# Altium footprint library PCB_PLC.PcbLib: 27 footprints (part 1 of 2)
Each footprint in its own frame and in the unit in brackets; x right, y up, seen from the top. Pads: shape width x height; smd on the part's side, far side on the other; paste and mask are expansions set on the pad; w line width, h text height; cw(c..) or ccw(c..) is an arc to the next point about the centre after c.
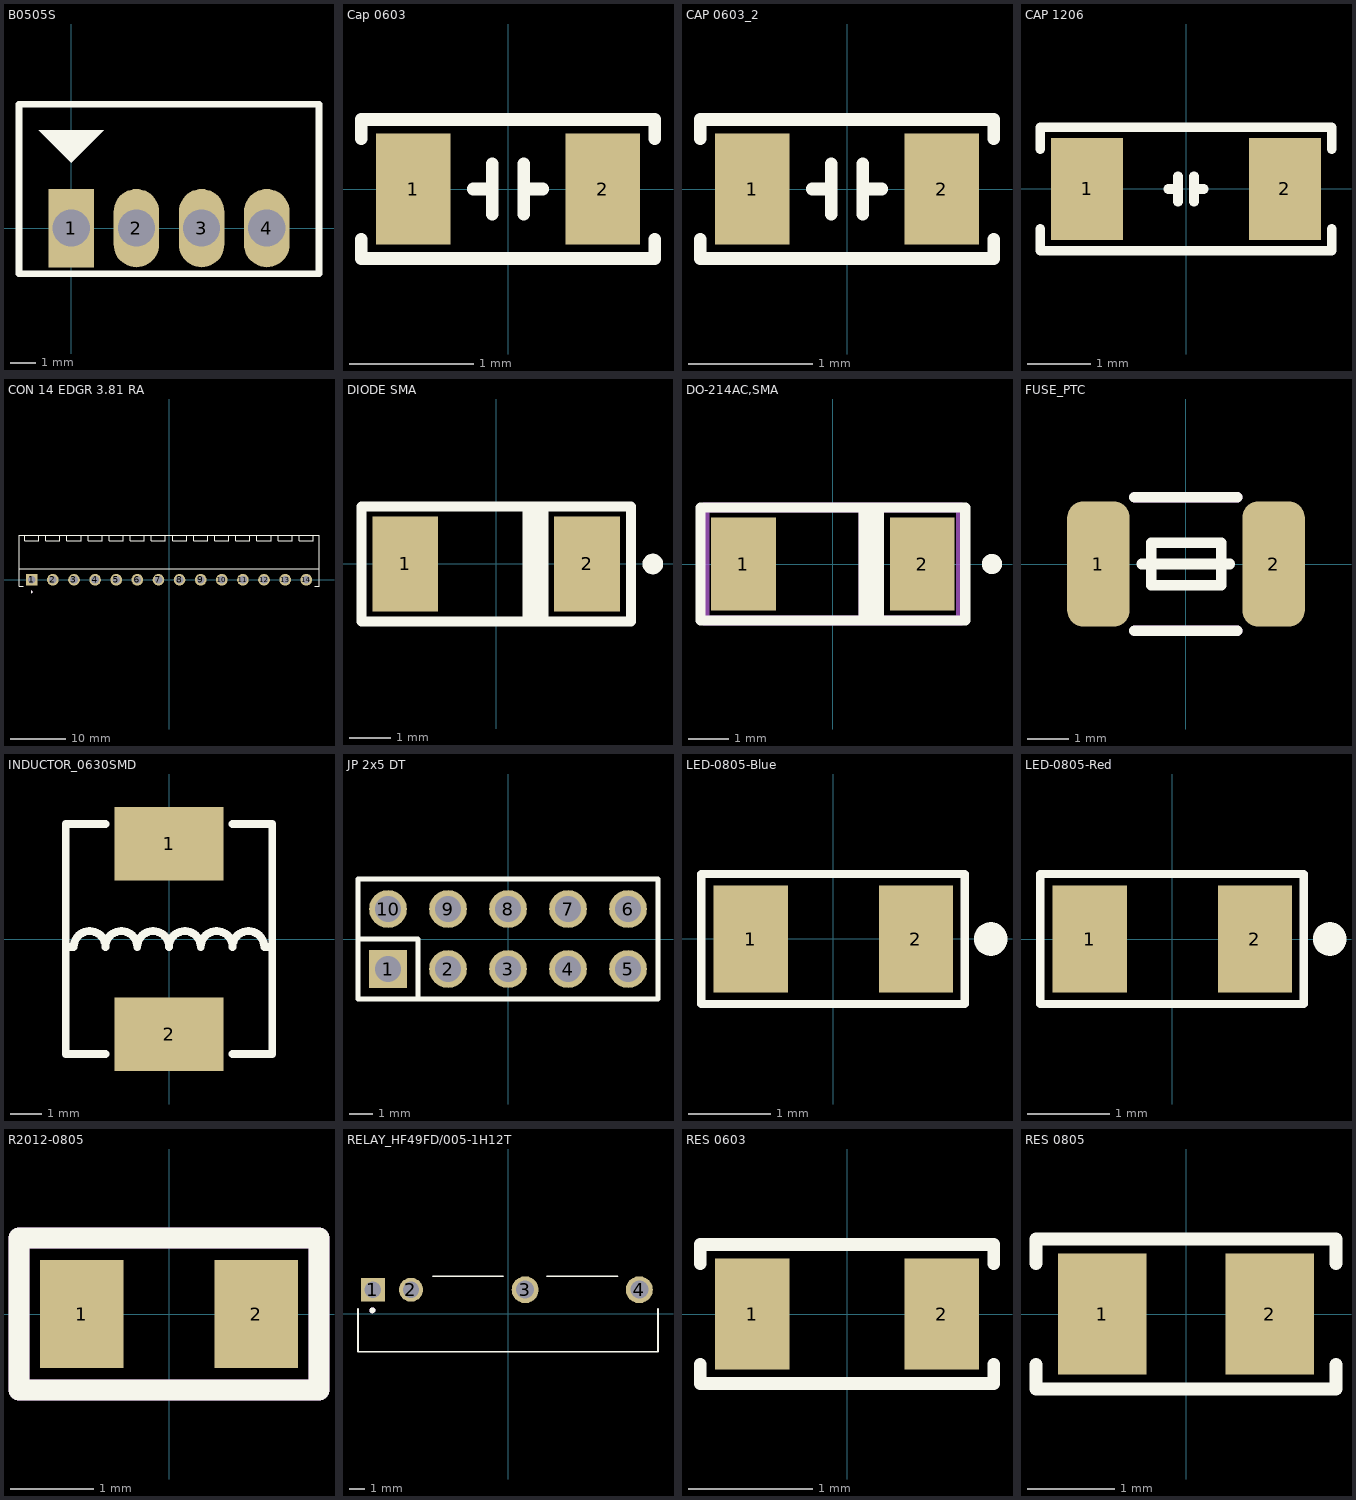
[diagram p0: the footprints below, top view; thin cyan lines are the x and y axes]

## B0505S [mil]
pads (4):
  rect 70x120 hole 57: 1(0,0)
  oval 70x120 hole 57: 2(100,0) 3(200,0) 4(300,0)
Top Overlay:
  region: -50,150 50,150 0,100
  lines w10: -80,-70 -80,-60 -80,190 380,190 380,-70 -80,-70
3D body "B0505s.step": height 393.7, standoff -141.73, extent -76.38,-50 376.38,186.22

## Cap 0603 [mm]
height 5.08
pads (2):
  rect 0.6x0.89 smd mask+0.051: 1(-0.762,0) 2(0.762,0)
Top Overlay:
  lines w0.102: -1.181,-0.403 -1.181,-0.559 1.181,-0.559 1.181,-0.403 ; -1.181,0.403 -1.181,0.559 1.181,0.559 1.181,0.403 ; -0.279,0 -0.127,0 ; -0.127,-0.203 -0.127,0 ; -0.127,0.203 -0.127,0 ; 0.127,-0.203 0.127,0 ; 0.127,0.203 0.127,0 ; 0.279,0 0.127,0
3D body "C0603.stp": height 0.78, standoff -0.02, extent -0.8,-0.399 0.8,0.401

## CAP 0603_2 [mm]
pads (2):
  rect 0.6x0.89 smd mask+0.051: 1(-0.762,0) 2(0.762,0)
Top Overlay:
  lines w0.102: -1.181,-0.403 -1.181,-0.559 1.181,-0.559 1.181,-0.403 ; -1.181,0.403 -1.181,0.559 1.181,0.559 1.181,0.403 ; -0.279,0 -0.127,0 ; -0.127,-0.203 -0.127,0 ; -0.127,0.203 -0.127,0 ; 0.127,-0.203 0.127,0 ; 0.127,0.203 0.127,0 ; 0.279,0 0.127,0
3D body "C0603.stp": height 0.78, standoff -0.02, extent -0.8,-0.399 0.8,0.401

## CAP 1206 [mil]
height 43.31
pads (2):
  rect 45x64 smd mask+2: 1(-62,0) 2(62,0)
Top Overlay:
  lines w6: -91.41,-25 -91.41,-38.77 91.41,-38.77 91.41,-25 ; -91.41,25 -91.41,38.77 91.41,38.77 91.41,24.99 ; -11,0 -5,0 ; -5,-8 -5,0 ; -5,8 -5,0 ; 5,-8 5,0 ; 5,8 5,0 ; 11,0 5,0
3D body "1206 SMD Capacitor.step": height 40.05, standoff 0.6, extent -62.99,-31.5 62.99,31.5

## CON 14 EDGR 3.81 RA [mm]
pads (14):
  rect 2.1x2.1 / inner round 2.1 / far side rect 2.1x2.1 hole 1.4: 1(-24.765,0)
  round 2.1 hole 1.4: 2(-20.955,0) 3(-17.145,0) 4(-13.335,0) 5(-9.525,0) 6(-5.715,0) 7(-1.905,0) 8(1.905,0) 9(5.715,0) 10(9.525,0) 11(13.335,0) 12(17.145,0) 13(20.955,0) 14(24.765,0)
Top Overlay:
  circle w0.2: c-24.765,-2.2 r0.1
  lines w0.203: -27.065,2 27.065,2.002 ; -26.265,-1.2 -27.065,-1.2 -27.065,8 27.065,8 27.065,-1.2 26.265,-1.2 ; -26.035,8 -26.035,7 -23.495,7 -23.495,8 ; -22.225,8 -22.225,7 -19.685,7 -19.685,8 ; -18.415,8 -18.415,7 -15.875,7 -15.875,8 ; -14.605,8 -14.605,7 -12.065,7 -12.065,8 ; -10.795,8 -10.795,7 -8.255,7 -8.255,8 ; -6.985,8 -6.985,7 -4.445,7 -4.445,8 ; -3.175,8 -3.175,7 -0.635,7 -0.635,8 ; 0.635,8 0.635,7 3.175,7 3.175,8 ; 4.445,8 4.445,7 6.985,7 6.985,8 ; 8.255,8 8.255,7 10.795,7 10.795,8 ; 12.065,8 12.065,7 14.605,7 14.605,8 ; 15.875,8 15.875,7 18.415,7 18.415,8 ; 19.685,8 19.685,7 22.225,7 22.225,8 ; 23.495,8 23.495,7 26.035,7 26.035,8
Mechanical 13:
  circle w0.2: c-24.765,-2.2 r0.1
3D body "TBP02R1-381-14BE--3DModel-STEP-242080.STEP": height 7.4, standoff -3.3, extent -27.065,-1.2 27.065,8

## DIODE SMA [mm] "SMA"
height 2.4
pads (2):
  rect 1.6x2.3 smd: 1(-2.21,0) 2(2.21,0)
Top Overlay:
  circle w0.25: c3.81,0 r0.125
  rectangle: 0.635,-1.35 1.27,1.35
  lines w0.25: -3.277,-1.397 3.277,-1.397 3.277,1.397 -3.277,1.397 -3.277,-1.397
3D body "DO-214AC SMA.STEP": height 2.4, standoff 0, extent -2.6,-1.3 2.6,1.3

## DO-214AC,SMA [mm] "Didode [1N4007,SS14,...]"
pads (2):
  rect 1.6x2.3 smd: 1(-2.21,0) 2(2.21,0)
Top Overlay:
  circle w0.25: c3.937,0 r0.125
  rectangle: 0.635,-1.35 1.27,1.35
  lines w0.25: -3.277,-1.397 3.277,-1.397 3.277,1.397 -3.277,1.397 -3.277,-1.397
Mechanical 2:
  rectangle: 0.635,-1.35 1.27,1.35
  lines w0.25: -3.175,-1.397 3.175,-1.397 3.175,1.397 -3.175,1.397 -3.175,-1.397
  text "'.Designator'" at -2.766,1.899 h1.52
3D body "DO-214AC SMA.STEP": height 2.4, standoff 0, extent -2.6,-1.3 2.6,1.3

## FUSE_PTC [mm]
pads (2):
  rrect50% 1.5x3 smd: 1(-2.1,0) 2(2.1,0)
Top Overlay:
  lines w0.254: -1.236,-1.6 1.227,-1.6 ; -1.236,1.6 1.227,1.6 ; -1.059,0 1.05,0 ; -0.83,0.508 -0.83,-0.508 0.846,-0.508 0.846,0.508 -0.805,0.508
Mechanical 2:
  lines w0.254: -1.232,-1.6 1.232,-1.6 ; -1.232,1.6 1.232,1.6
  text "'.Designator'" at -4.445,2.245 h1.8
3D body "User Library-0ZCG-0_90mmPTC1812X0_5MM.STEP": height 0.55, standoff 0.05, extent -2.254,-1.6 2.246,1.6

## INDUCTOR_0630SMD [mm] "10uH"
pads (2):
  rect 3.5x2.35 smd: 1(0,3.048) 2(0,-3.048)
Top Overlay:
  lines w0.254: -3.302,-0.254 -3.048,-0.254 cw(c-2.54,-0.254) -2.54,0.254 cw(c-2.54,-0.254) -2.032,-0.254 cw(c-1.524,-0.254) -1.524,0.254 cw(c-1.524,-0.254) -1.016,-0.254 cw(c-0.508,-0.254) -0.508,0.254 cw(c-0.508,-0.254) 0,-0.254 cw(c0.508,-0.254) 0.508,0.254 cw(c0.508,-0.254) 1.016,-0.254 cw(c1.524,-0.254) 1.524,0.254 cw(c1.524,-0.254) 2.032,-0.254 cw(c2.54,-0.254) 2.54,0.254 cw(c2.54,-0.254) 3.048,-0.254 3.302,-0.254 ; -2.032,-3.683 -3.302,-3.683 -3.302,3.683 -2.032,3.683 ; 2.032,-3.683 3.302,-3.683 3.302,3.683 2.032,3.683
3D body "7764039.stp": height 3.97, standoff -0.02, extent -3.251,-3.594 3.251,3.594

## JP 2x5 DT [mm] "10 pins, dual pin, straight, gold plating"
height 8.54
pads (10):
  rect 1.6x1.6 hole 1.1: 1(-5.08,-1.27)
  round 1.6 hole 1.1: 2(-2.54,-1.27) 3(0,-1.27) 4(2.54,-1.27) 5(5.08,-1.27) 6(5.08,1.27) 7(2.54,1.27) 8(0,1.27) 9(-2.54,1.27) 10(-5.08,1.27)
Top Overlay:
  lines w0.2: -6.35,0 -3.81,0 -3.81,-2.54 ; -6.35,-2.54 6.35,-2.54 6.35,2.54 -1.27,2.54 -6.35,2.54 -6.35,-2.54
3D body "61301021121.stp": height 8.55, standoff -2.99, extent -6.35,-2.54 6.35,2.54

## LED-0805-Blue [mm]
pads (2):
  rect 0.9x1.3 smd mask+0.051: 1(-1,0) 2(1,0)
Top Overlay:
  circle w0.254: c1.905,0 r0.076
  lines w0.102: -1.6,-0.787 -1.6,0.787 1.589,0.787 1.589,-0.787 -1.6,-0.787
3D body "User Library-led_0805-blue.step": height 1.1, standoff 0, extent -1.01,-0.625 1.01,0.625

## LED-0805-Red [mm]
pads (2):
  rect 0.9x1.3 smd mask+0.051: 1(-1,0) 2(1,0)
Top Overlay:
  circle w0.254: c1.905,0 r0.076
  lines w0.102: -1.6,-0.787 1.589,-0.787 1.589,0.787 -1.6,0.787 -1.6,-0.787
3D body "User Library-led_0805-red.step": height 1.1, standoff 0, extent -1.01,-0.625 1.01,0.625

## R2012-0805 [mm] "Resister Chip 0805 package"
pads (2):
  rect 1x1.3 smd: 1(-1.05,0) 2(1.05,0)
Top Overlay:
  lines w0.25: -1.803,-0.914 1.803,-0.914 1.803,0.914 -1.803,0.914 -1.803,-0.914
Mechanical 2:
  lines w0.25: -1.803,-0.914 1.803,-0.914 1.803,0.914 -1.803,0.914 -1.803,-0.914
  text ".Designator" at -2.573,1.401 h1.5
Mechanical 13:
  lines w0.25: -1.803,-0.914 -1.803,0.914 1.803,0.914 1.803,-0.914 -1.803,-0.914
3D body "User Library-RESC2012X05N.STEP": height 0.45, standoff 0, extent -1,-0.625 1,0.625

## RELAY_HF49FD/005-1H12T [mm]
pads (4):
  rect 1.6x1.6 hole 1.1: 1(-9.03,1.6)
  round 1.6 hole 1.1: 2(-6.49,1.6)
  round 1.8 hole 1.2: 3(1.13,1.6) 4(8.75,1.6)
Top Overlay:
  circle w0.2: c-9.068,0.229 r0.1
  lines w0.127: -10.028,0.33 -10.028,-2.54 10,-2.54 10,0.33 ; -5.03,2.5 -0.33,2.5 ; 2.59,2.5 7.29,2.5
Mechanical 13:
  circle w0.2: c-9.068,0.229 r0.1
3D body "HF49FD_005-1H12.stp": height 12.63, standoff -3.37, extent -10,-2.501 10,2.5

## RES 0603 [mm] "RES 0603"
height 0.5
pads (2):
  rect 0.6x0.89 smd mask+0.051: 1(-0.762,0) 2(0.762,0)
Top Overlay:
  lines w0.102: -1.181,-0.403 -1.181,-0.559 1.181,-0.559 1.181,-0.403 ; -1.181,0.403 -1.181,0.559 1.181,0.559 1.181,0.403
3D body "R0603.step": height 0.45, standoff 0, extent -0.8,-0.4 0.8,0.4

## RES 0805 [mil]
pads (2):
  rect 40x55 smd mask+2: 1(-38,0) 2(38,0)
Top Overlay:
  lines w6: -68,-23 -68,-34 68,-34 68,-23 ; -68,23 -68,34 68,34 68,23
3D body "R0805.step": height 19.68, standoff 0, extent -39.37,-24.6 39.37,24.61